# Altium footprint library PcbLib1.PcbLib: 42 footprints (part 1 of 3)
Each footprint in its own frame and in the unit in brackets; x right, y up, seen from the top. Pads: shape width x height; smd on the part's side, far side on the other; paste and mask are expansions set on the pad; w line width, h text height; cw(c..) or ccw(c..) is an arc to the next point about the centre after c.
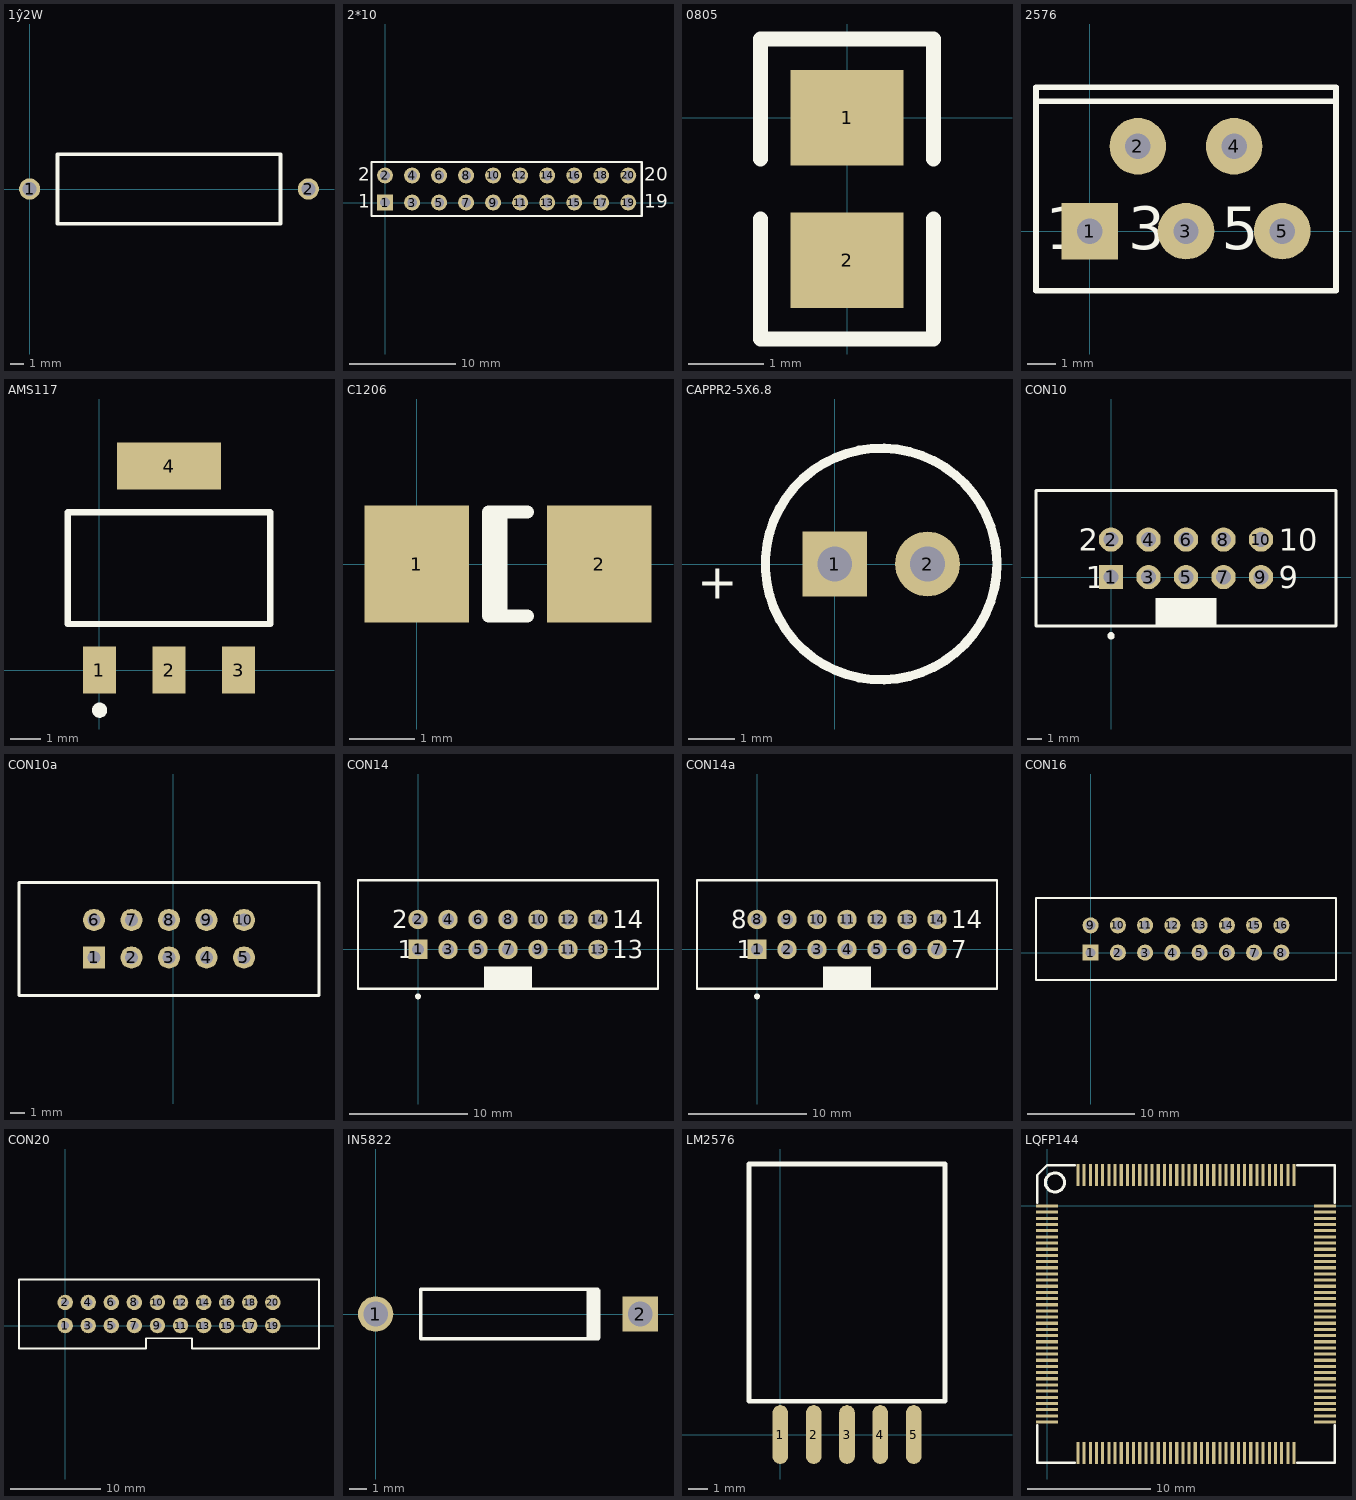
[diagram p0: the footprints below, top view; thin cyan lines are the x and y axes]

## 1ŷ2W [mil]
pads (2):
  round 60 hole 39.37: 1(0,0) 2(787.4,0)
Top Overlay:
  lines w10: 78.74,-98.43 78.74,98.43 708.66,98.43 708.66,-98.43 78.74,-98.43

## 2*10 [mm]
pads (20):
  rect 1.5x1.5 hole 0.9: 1(0,0)
  round 1.5 hole 0.9: 2(0,2.54) 3(2.54,0) 4(2.54,2.54) 5(5.08,0) 6(5.08,2.54) 7(7.62,0) 8(7.62,2.54) 9(10.16,0) 10(10.16,2.54) 11(12.7,0) 12(12.7,2.54) 13(15.24,0) 14(15.24,2.54) 15(17.78,0) 16(17.78,2.54) 17(20.32,0) 18(20.32,2.54) 19(22.86,0) 20(22.86,2.54)
Top Overlay:
  lines w0.2: -1.27,-1.27 -1.27,3.81 0.635,3.81 24.13,3.81 24.13,-1.27 0.635,-1.27 -1.27,-1.27
  text "2" at -2.54,2.032 h1.27
  text "1" at -2.54,-0.508 h1.27
  text "19" at 24.384,-0.508 h1.27
  text "20" at 24.384,2.032 h1.27

## 0805 [mm]
pads (2):
  rect 1.5x1.27 smd: 1(0,0) 2(0,-1.9)
Top Overlay:
  lines w0.2: -1.15,-1.35 -1.15,-2.95 1.15,-2.95 1.15,-1.35 ; -1.15,-0.55 -1.15,1.05 1.15,1.05 1.15,-0.55

## 2576 [mm]
pads (5):
  rect 2x2 hole 0.9: 1(0,0)
  round 2 hole 0.9: 2(1.7,3) 3(3.4,0) 4(5.1,3) 5(6.8,0)
Top Overlay:
  lines w0.2: -1.9,4.586 8.7,4.586 ; -1.9,-2.1 8.7,-2.1 8.7,5.08 -1.9,5.08 -1.9,-2.1
  text "1" at -1.553,-0.635 h1.5
  text "3" at 1.368,-0.635 h1.5
  text "5" at 4.67,-0.635 h1.5

## AMS117 [mm]
pads (4):
  rect 1.1x1.55 smd: 1(0,0) 2(2.3,0) 3(4.6,0)
  rect 3.45x1.55 smd: 4(2.3,6.75)
Top Overlay:
  circle w0.25: c0,-1.325 r0.125
  lines w0.2: -1.05,1.525 -1.05,5.225 5.65,5.225 5.65,1.525 -1.05,1.525

## C1206 [mm]
pads (2):
  rect 1.6x1.8 smd: 1(0,0) 2(2.8,0)
Top Overlay:
  lines w0.2: 1.29,-0.8 1.29,0.8 ; 1.7,-0.8 1.1,-0.8 1.1,0.8 1.7,0.8

## CAPPR2-5X6.8 [mil]
pads (2):
  rect 55x55 hole 29.53: 1(0,0)
  round 55 hole 29.53: 2(78.74,0)
Top Overlay:
  circle w7.87: c39.37,0 r98.43
  text "+" at -117.13,-29.53 h30

## CON10 [mm]
pads (10):
  rect 1.65x1.65 hole 1: 1(0,0)
  round 1.65 hole 1: 2(0,2.54) 3(2.54,0) 4(2.54,2.54) 5(5.08,0) 6(5.08,2.54) 7(7.62,0) 8(7.62,2.54) 9(10.16,0) 10(10.16,2.54)
Top Overlay:
  circle w0.25: c0,-3.98 r0.125
  rectangle: 3.03,-3.33 7.13,-1.43
  lines w0.2: -5.08,-3.33 15.24,-3.33 15.24,5.87 -5.08,5.87 -5.08,-3.33
  text "9" at 11.36,-0.75 h1.5
  text "10" at 11.36,1.79 h1.5
  text "1" at -1.7,-0.75 h1.5
  text "2" at -2.2,1.79 h1.5
Mechanical 13:
  lines w0.1: -5.08,-3.33 -5.08,5.87 15.24,5.87 15.24,-3.33 -5.08,-3.33
3D body: height 9.45, standoff 0, extent -5.08,-3.33 15.24,5.87

## CON10a [mm]
pads (10):
  rect 1.5x1.5 hole 0.9: 1(-5.375,66.725)
  round 1.5 hole 0.9: 2(-2.835,66.725) 3(-0.295,66.725) 4(2.245,66.725) 5(4.785,66.725) 6(-5.375,69.265) 7(-2.835,69.265) 8(-0.295,69.265) 9(2.245,69.265) 10(4.785,69.265)
Top Overlay:
  lines w0.2: -10.455,64.15 9.865,64.15 9.865,71.805 -10.455,71.805 -10.455,64.15

## CON14 [mm]
pads (14):
  rect 1.65x1.65 hole 1: 1(0,0)
  round 1.65 hole 1: 2(0,2.54) 3(2.54,0) 4(2.54,2.54) 5(5.08,0) 6(5.08,2.54) 7(7.62,0) 8(7.62,2.54) 9(10.16,0) 10(10.16,2.54) 11(12.7,0) 12(12.7,2.54) 13(15.24,0) 14(15.24,2.54)
Top Overlay:
  circle w0.25: c0,-3.98 r0.125
  rectangle: 5.57,-3.33 9.67,-1.43
  lines w0.2: -5.08,-3.33 -5.08,5.87 20.32,5.87 20.32,-3.33 -5.08,-3.33
  text "2" at -2.2,1.79 h1.5
  text "1" at -1.7,-0.75 h1.5
  text "14" at 16.44,1.79 h1.5
  text "13" at 16.44,-0.75 h1.5
Mechanical 13:
  lines w0.1: -5.08,-3.33 20.32,-3.33 20.32,5.87 -5.08,5.87 -5.08,-3.33
3D body: height 9.45, standoff 0, extent -5.08,-3.33 20.32,5.87

## CON14a [mm]
pads (14):
  rect 1.65x1.65 hole 1: 1(0,0)
  round 1.65 hole 1: 2(2.54,0) 3(5.08,0) 4(7.62,0) 5(10.16,0) 6(12.7,0) 7(15.24,0) 8(0,2.54) 9(2.54,2.54) 10(5.08,2.54) 11(7.62,2.54) 12(10.16,2.54) 13(12.7,2.54) 14(15.24,2.54)
Top Overlay:
  circle w0.25: c0,-3.98 r0.125
  rectangle: 5.57,-3.33 9.67,-1.43
  lines w0.2: -5.08,-3.33 -5.08,5.87 20.32,5.87 20.32,-3.33 -5.08,-3.33
  text "8" at -2.2,1.79 h1.5
  text "1" at -1.7,-0.75 h1.5
  text "14" at 16.44,1.79 h1.5
  text "7" at 16.44,-0.75 h1.5
Mechanical 13:
  lines w0.1: -5.08,-3.33 20.32,-3.33 20.32,5.87 -5.08,5.87 -5.08,-3.33
3D body: height 9.45, standoff 0, extent -5.08,-3.33 20.32,5.87

## CON16 [mm]
pads (16):
  rect 1.5x1.5 hole 0.9: 1(0,0)
  round 1.5 hole 0.9: 2(2.54,0) 3(5.08,0) 4(7.62,0) 5(10.16,0) 6(12.7,0) 7(15.24,0) 8(17.78,0) 9(0,2.54) 10(2.54,2.54) 11(5.08,2.54) 12(7.62,2.54) 13(10.16,2.54) 14(12.7,2.54) 15(15.24,2.54) 16(17.78,2.54)
Top Overlay:
  lines w0.2: -5.08,-2.54 -5.08,5.08 22.86,5.08 22.86,-2.54 -5.08,-2.54

## CON20 [mm]
pads (20):
  round 1.7 hole 0.9: 1(0,0) 2(0,2.54) 3(2.54,0) 4(2.54,2.54) 5(5.08,0) 6(5.08,2.54) 7(7.62,0) 8(7.62,2.54) 9(10.16,0) 10(10.16,2.54) 11(12.7,0) 12(12.7,2.54) 13(15.24,0) 14(15.24,2.54) 15(17.78,0) 16(17.78,2.54) 17(20.32,0) 18(20.32,2.54) 19(22.86,0) 20(22.86,2.54)
Top Overlay:
  lines w0.203: -5.08,-2.54 8.89,-2.54 8.89,-1.397 13.97,-1.397 13.97,-2.54 27.94,-2.54 27.94,5.08 -5.08,5.08 -5.08,-2.54

## IN5822 [mm]
pads (2):
  round 2 hole 1.4: 1(0,0)
  rect 2x2 hole 1.4: 2(15,0)
Top Overlay:
  rectangle: 11.938,-1.4 12.738,1.4
  lines w0.2: 12.573,1.4 2.557,1.4 2.557,-1.4 12.611,-1.4

## LM2576 [mm]
pads (5):
  oval 0.8x3 smd: 1(0,0) 2(1.7,0) 3(3.4,0) 4(5.1,0) 5(6.8,0)
Top Overlay:
  lines w0.254: -1.6,1.7 8.4,1.7 8.4,13.8 -1.6,13.8 -1.6,1.7

## LQFP144 [mm]
pads (144):
  rect 1.8x0.254 smd: 1(0,0) 2(0,-0.5) 3(0,-1) 4(0,-1.5) 5(0,-2) 6(0,-2.5) 7(0,-3) 8(0,-3.5) 9(0,-4) 10(0,-4.5) 11(0,-5) 12(0,-5.5) 13(0,-6) 14(0,-6.5) 15(0,-7) 16(0,-7.5) 17(0,-8) 18(0,-8.5) 19(0,-9) 20(0,-9.5) 21(0,-10) 22(0,-10.5) 23(0,-11) 24(0,-11.5) 25(0,-12) 26(0,-12.5) 27(0,-13) 28(0,-13.5) 29(0,-14) 30(0,-14.5) 31(0,-15) 32(0,-15.5) 33(0,-16) 34(0,-16.5) 35(0,-17) 36(0,-17.5) 73(22.5,-17.5) 74(22.5,-17) 75(22.5,-16.5) 76(22.5,-16) 77(22.5,-15.5) 78(22.5,-15) 79(22.5,-14.5) 80(22.5,-14) 81(22.5,-13.5) 82(22.5,-13) 83(22.5,-12.5) 84(22.5,-12) 85(22.5,-11.5) 86(22.5,-11) 87(22.5,-10.5) 88(22.5,-10) 89(22.5,-9.5) 90(22.5,-9) 91(22.5,-8.5) 92(22.5,-8) 93(22.5,-7.5) 94(22.5,-7) 95(22.5,-6.5) 96(22.5,-6) 97(22.5,-5.5) 98(22.5,-5) 99(22.5,-4.5) 100(22.5,-4) 101(22.5,-3.5) 102(22.5,-3) 103(22.5,-2.5) 104(22.5,-2) 105(22.5,-1.5) 106(22.5,-1) 107(22.5,-0.5) 108(22.5,0)
  rect 0.254x1.8 smd: 37(2.5,-20) 38(3,-20) 39(3.5,-20) 40(4,-20) 41(4.5,-20) 42(5,-20) 43(5.5,-20) 44(6,-20) 45(6.5,-20) 46(7,-20) 47(7.5,-20) 48(8,-20) 49(8.5,-20) 50(9,-20) 51(9.5,-20) 52(10,-20) 53(10.5,-20) 54(11,-20) 55(11.5,-20) 56(12,-20) 57(12.5,-20) 58(13,-20) 59(13.5,-20) 60(14,-20) 61(14.5,-20) 62(15,-20) 63(15.5,-20) 64(16,-20) 65(16.5,-20) 66(17,-20) 67(17.5,-20) 68(18,-20) 69(18.5,-20) 70(19,-20) 71(19.5,-20) 72(20,-20) 109(20,2.5) 110(19.5,2.5) 111(19,2.5) 112(18.5,2.5) 113(18,2.5) 114(17.5,2.5) 115(17,2.5) 116(16.5,2.5) 117(16,2.5) 118(15.5,2.5) 119(15,2.5) 120(14.5,2.5) 121(14,2.5) 122(13.5,2.5) 123(13,2.5) 124(12.5,2.5) 125(12,2.5) 126(11.5,2.5) 127(11,2.5) 128(10.5,2.5) 129(10,2.5) 130(9.5,2.5) 131(9,2.5) 132(8.5,2.5) 133(8,2.5) 134(7.5,2.5) 135(7,2.5) 136(6.5,2.5) 137(6,2.5) 138(5.5,2.5) 139(5,2.5) 140(4.5,2.5) 141(4,2.5) 142(3.5,2.5) 143(3,2.5) 144(2.5,2.5)
Top Overlay:
  circle w0.254: c0.633,1.904 r0.773
  lines w0.2: -0.8,-17.75 -0.8,-20.8 2.25,-20.8 ; -0.8,0.25 -0.8,2.5 0,3.3 2.25,3.3 ; 20.25,-20.8 23.3,-20.8 23.3,-17.75 ; 20.25,3.3 23.3,3.3 23.3,0.25